# Altium schematic symbol library AG.Generic.Old.SchLib: 18 symbols
Pins are listed as number, name and electrical type; pins without a type are passive.

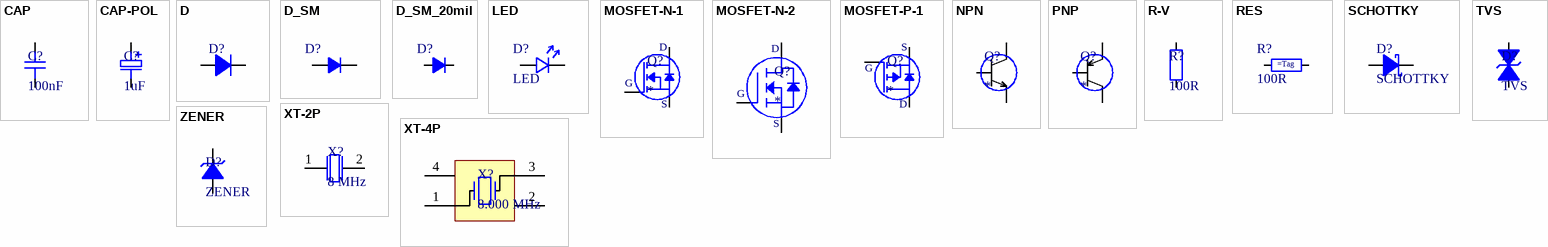
[diagram p0: symbols CAP to ZENER]

## CAP
designator C?, comment 100nF
Generic Capacitor; Tolerance: 20%; Tag: 0805; Value: 100nF; Mounting Type: SMT; Case: 0805
footprint C0402 (Chip Capacitor 0402)
footprint C0603 (Chip Capacitor 0603)
footprint C0805 (Chip Capacitor 0805)
footprint C1206 (Chip Capacitor 1206)
pins: 1, 2
5 alternate drawings of the same symbol

## CAP-POL
designator C?, comment 1uF
Generic Polarized Capacitor; Tolerance: 20%; Tag: 6.3x5.4mm; Max Voltage: 16V; Value: 1uF; Case: 6.3x5.4mm; Mounting Type: SMT
footprint C_EL_6.3
pins: 1 (power), 2 (power)
1 alternate drawing of the same symbol

## D
designator D?  (value not drawn)
Generic Diode (Rectifier); ProductNumber: *; Manufacturer: *; URL: *; UnitPrice: *; MountingTechnology: *; PartNo: *; Supplier: *; Case: *; BaseProduct: *
footprint DO-214AC (DO-214AC (SMA) Diode)
footprint DO-214AA (DO-214AA (SMB) Diode)
pins: 1 A, 2 C

## D_SM
designator D?
Generic Diode (Rectifier)
pins: 1 A, 2 C

## D_SM_20mil
designator D?
Generic Diode (Rectifier) (Symbol 20 mil)
pins: 1 A, 2 C

## LED
designator D?
Generic LED; EmittingColor: *; ForwardVoltage: *
footprint LED1206 (LED Chip 1206 (3.2mm x 1.5mm))
pins: 1 A, 2 C

## MOSFET-N-1
designator Q?
Generic N-Channel MOSFET
pins: 1 G, 2 S, 3 D

## MOSFET-N-2
designator Q?
Generic N-Channel MOSFET
pins: 1 G, 2 D, 3 S

## MOSFET-P-1
designator Q?
Generic P-Channel MOSFET
footprint SOT-23-127P600-8N
pins: 1 G, 2 S, 3 D

## NPN
designator Q?
Generic NPN Transistor
pins: 1 B, 2 E, 3 C

## PNP
designator Q?
Generic PNP Transistor
pins: 1 B, 2 E, 3 C

## R-V
designator R?, comment 100R
Generic Resistor - Vertical (30mil); Tolerance: 1%; Value: 100R; MountingTechnology: SMT; BaseProduct: *
footprint R0402 (Chip Resistor 0402)
footprint R0603 (Chip Resistor 0603)
footprint R0805 (Chip Resistor 0805)
footprint R1206 (Chip Resistor 1206)
footprint R2512 (Chip Resistor 2512)
footprint R2010 (Chip Resistor 2010)
pins: 1, 2

## RES
designator R?, comment 100R
Generic Resistor; Tag: 0805; Tolerance: 1%; Value: 100R; Mounting Type: SMT; Case: 0805
footprint R0402 (Chip Resistor 0402)
footprint R0603 (Chip Resistor 0603)
footprint R1206 (Chip Resistor 1206)
footprint R2512 (Chip Resistor 2512)
footprint R2010 (Chip Resistor 2010)
footprint R0805 (Chip Resistor 0805)
pins: 1, 2
1 alternate drawing of the same symbol

## SCHOTTKY
designator D?
Generic Schottky Diode; ProductNumber: *; Manufacturer: *; URL: *; UnitPrice: *; MountingTechnology: *; PartNo: *; Supplier: *; Case: *; BaseProduct: *
footprint DO-214AC (DO-214AC (SMA) Diode)
footprint DO-214AA (DO-214AA (SMB) Diode)
pins: 1 A, 2 C

## TVS
designator D?
Generic TVS Diode; ProductNumber: *; Manufacturer: *; URL: *; UnitPrice: *; MountingTechnology: *; PartNo: *; Supplier: *; Case: *; BaseProduct: *
pins: 1 A, 2 C

## XT-2P
designator X?, comment 8 MHz
Generic Crystal Resonator (2 Leads); Frequency: 8 MHz
pins: 1, 2

## XT-4P
designator X?, comment 8.000 MHz
Generic Crystal Resonator (4 Leads); Frequency: 8.000 MHz
footprint XT-4P_5x3.2mm (Crystal Resonator 4 Leads 5x3.2mm (Generic))
pins: 1 X1, 2 GND, 3 X2, 4 GND

## ZENER
designator D?
Generic Zener Diode; ProductNumber: *; Manufacturer: *; URL: *; UnitPrice: *; MountingTechnology: *; PartNo: *; Supplier: *; Case: *; BaseProduct: *
footprint SOD-80-C-DIOMELF3515N
pins: 1 A, 2 C